# EAGLE library part ISL85003 (library power)
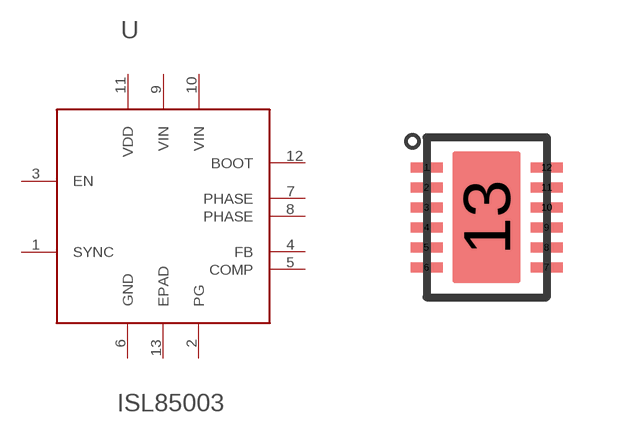
[diagram p10: symbol with the pads of ISL85003-DFN-3X4-12PIN; footprint ISL85003-DFN-3X4-12PIN]

Designator prefix U

## ISL85003  [ISL85003-DFN-3X4-12PIN]
1  SYNC  in
2  PG
3  EN  in
4  FB  in
5  COMP  in
6  GND  in
7  PHASE
8  PHASE
9  VIN
10  VIN
11  VDD
12  BOOT
13  EPAD

## Footprint ISL85003-DFN-3X4-12PIN (pad centres in mm)
smd 0.8 x 0.25: 1 -1.5,1.25; 2 -1.5,0.75; 3 -1.5,0.25; 4 -1.5,-0.25; 5 -1.5,-0.75; 6 -1.5,-1.25; 7 1.5,-1.25; 8 1.5,-0.75; 9 1.5,-0.25; 10 1.5,0.25; 11 1.5,0.75; 12 1.5,1.25
smd 1.7 x 3.3: 13 0,0